# Altium schematic symbol library RC0805JR-072K2L.SchLib: 1 symbol
Pins are listed as number, name and electrical type; pins without a type are passive.

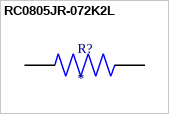
[diagram p0: symbol RC0805JR-072K2L]

## RC0805JR-072K2L
designator R?
Res Thick Film 0805 2.2K Ohm 5% 0.125W(1/8W) ?100ppm/C Molded SMD T/R; MP: RC0805JR-072K2L; Package: None; Price: None; Value: *; Availability: Unavailable
footprint RESC2012X60N
pins: 1, 2